# Altium footprint library Package_LGA.PcbLib: 2 footprints
Each footprint in its own frame and in the unit in brackets; x right, y up, seen from the top. Pads: shape width x height; smd on the part's side, far side on the other; paste and mask are expansions set on the pad; w line width, h text height; cw(c..) or ccw(c..) is an arc to the next point about the centre after c.
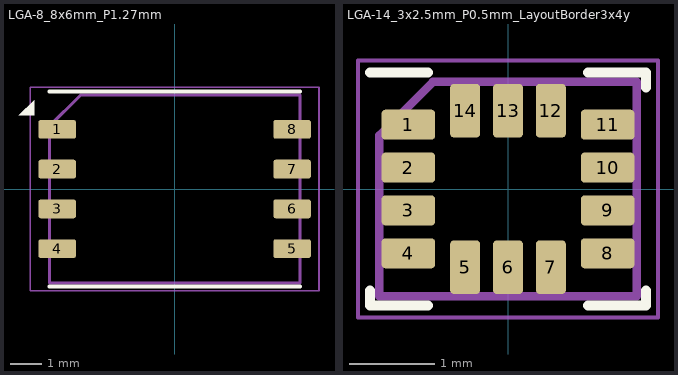
[diagram p0: the footprints below, top view; thin cyan lines are the x and y axes]

## LGA-8_8x6mm_P1.27mm [mm]
pads (8):
  rrect25% 1.2x0.6 smd: 1(-3.75,1.905) 2(-3.75,0.635) 3(-3.75,-0.635) 4(-3.75,-1.905) 5(3.75,-1.905) 6(3.75,-0.635) 7(3.75,0.635) 8(3.75,1.905)
Top Overlay:
  region: -4.97,2.35 -4.49,2.83 -4.49,2.35
  lines w0.12: -4,-3.11 4,-3.11 ; -4,3.11 4,3.11
Mechanical 13:
  lines w0.1: -4,-3 4,-3 4,3 -3,3 -4,2 -4,-3
Mechanical 15:
  lines w0.05: -4.61,-3.25 4.61,-3.25 4.61,3.25 -4.61,3.25 -4.61,-3.25
3D body "LGA8C127P7X4_800X600X70.step": height 0.7, standoff 0, extent -4.11,-3 4.11,3

## LGA-14_3x2.5mm_P0.5mm_LayoutBorder3x4y [mm]
pads (14):
  rrect25% 0.625x0.35 smd: 1(-1.162,0.75) 2(-1.162,0.25) 3(-1.162,-0.25) 4(-1.162,-0.75) 8(1.162,-0.75) 9(1.162,-0.25) 10(1.162,0.25) 11(1.162,0.75)
  rrect25% 0.35x0.625 smd: 5(-0.5,-0.913) 6(0,-0.913) 7(0.5,-0.913) 12(0.5,0.913) 13(0,0.913) 14(-0.5,0.913)
Top Overlay:
  lines w0.12: -1.61,-1.185 -1.61,-1.36 -0.935,-1.36 ; -1.61,1.36 -0.935,1.36 ; 0.935,-1.36 1.61,-1.36 1.61,-1.185 ; 0.935,1.36 1.61,1.36 1.61,1.185
Mechanical 13:
  lines w0.1: -1.5,-1.25 1.5,-1.25 1.5,1.25 -0.875,1.25 -1.5,0.625 -1.5,-1.25
Mechanical 15:
  lines w0.05: -1.75,-1.5 -1.75,1.5 1.75,1.5 1.75,-1.5 -1.75,-1.5
3D body "LGA-14_3x2.5mm_P0.5mm_LayoutBorder3x4y.step": height 0.78, standoff 0, extent -1.5,-1.25 1.5,1.25